# EAGLE library part 2X4 (library con-amp-micro-mate-n-lock)
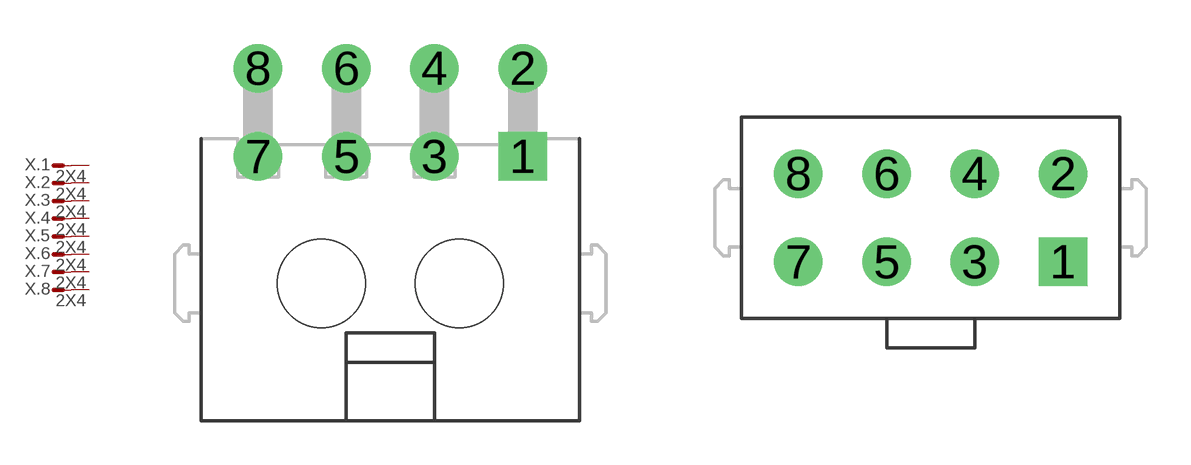
[diagram p8: symbol with the pads of 3-794618-8; footprints 3-794618-8, 3-794630-8]

Designator prefix X; gates .1=M .2=M .3=M .4=M .5=M .6=M .7=M .8=M

## 2X4-A  [3-794618-8]
1  .1:S  pas
2  .2:S  pas
3  .3:S  pas
4  .4:S  pas
5  .5:S  pas
6  .6:S  pas
7  .7:S  pas
8  .8:S  pas

## 2X4-B  [3-794630-8]
Pads as for 3-794618-8

## 2X4-C  [3-794677-8]
Pads as for 3-794618-8

## 2X4-D  [3-794680-8]
Pads as for 3-794618-8

## Footprint 3-794618-8 (pad centres in mm)
drill 1.1 square: 1 0,0
drill 1.1 round: 2 0,3; 3 -3,0; 4 -3,3; 5 -6,0; 6 -6,3; 7 -9,0; 8 -9,3
hole 3 at -2.15,-4.32
hole 3 at -6.85,-4.32

## Footprint 3-794630-8 (pad centres in mm)
drill 1.1 square: 1 0,0
drill 1.1 round: 2 0,3; 3 -3,0; 4 -3,3; 5 -6,0; 6 -6,3; 7 -9,0; 8 -9,3

## Footprint 3-794677-8 (pad centres in mm)
drill 1.1 square: 1 0,0
drill 1.1 round: 2 0,3; 3 -3,0; 4 -3,3; 5 -6,0; 6 -6,3; 7 -9,0; 8 -9,3
hole 2.4 at 2.15,-4.32
hole 2.4 at -11.15,-4.32

## Footprint 3-794680-8 (pad centres in mm)
drill 1.1 square: 1 0,0
drill 1.1 round: 2 0,3; 3 -3,0; 4 -3,3; 5 -6,0; 6 -6,3; 7 -9,0; 8 -9,3
hole 2.4 at -11.15,1.5
hole 2.4 at 2.15,1.5